# EAGLE library part RLY (library PSU)
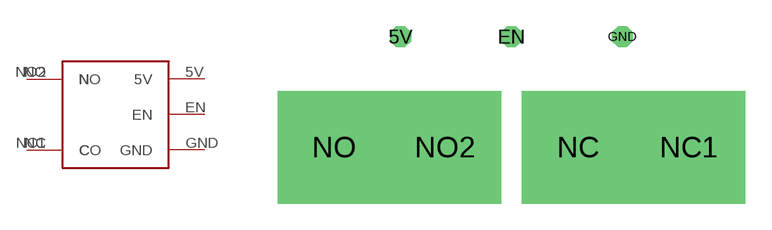
[diagram p1: symbol with the pads of RLY; footprint RLY]

Designator prefix -

## RLY  [RLY]
5V  5V
EN  EN
GND  GND
NC  C
NC1  CO
NO  N
NO2  NO

## Footprint RLY (pad centres in mm)
drill 0.7 octagon: 5V 6.985,9.525; EN 13.335,9.525; GND 19.685,9.525
drill 2.8 pad 6.452 square: NC 17.145,3.175; NC1 23.495,3.175; NO 3.175,3.175; NO2 9.525,3.175